# Altium schematic symbol library 21136NA.SchLib: 2 symbols
Pins are listed as number, name and electrical type; pins without a type are passive.

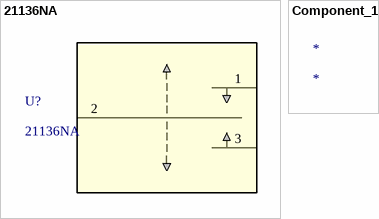
[diagram p0: symbols 21136NA to Component_1]

## 21136NA
designator U?
No Description Available; Mfr_Name: Apem; Copyright: Copyright (C) 2021 Ultra Librarian. All rights reserved.; Manufacturer_Part_Number: 21136NA; RefDes: RefDes; Type: DEV
footprint SWITCH_21136_APM
pins: 1, 2, 3

## Component_1
designator *